# Altium footprint library 2002_B_CapteurMeteoWifi.PcbLib: 17 footprints (part 1 of 2)
Each footprint in its own frame and in the unit in brackets; x right, y up, seen from the top. Pads: shape width x height; smd on the part's side, far side on the other; paste and mask are expansions set on the pad; w line width, h text height; cw(c..) or ccw(c..) is an arc to the next point about the centre after c.
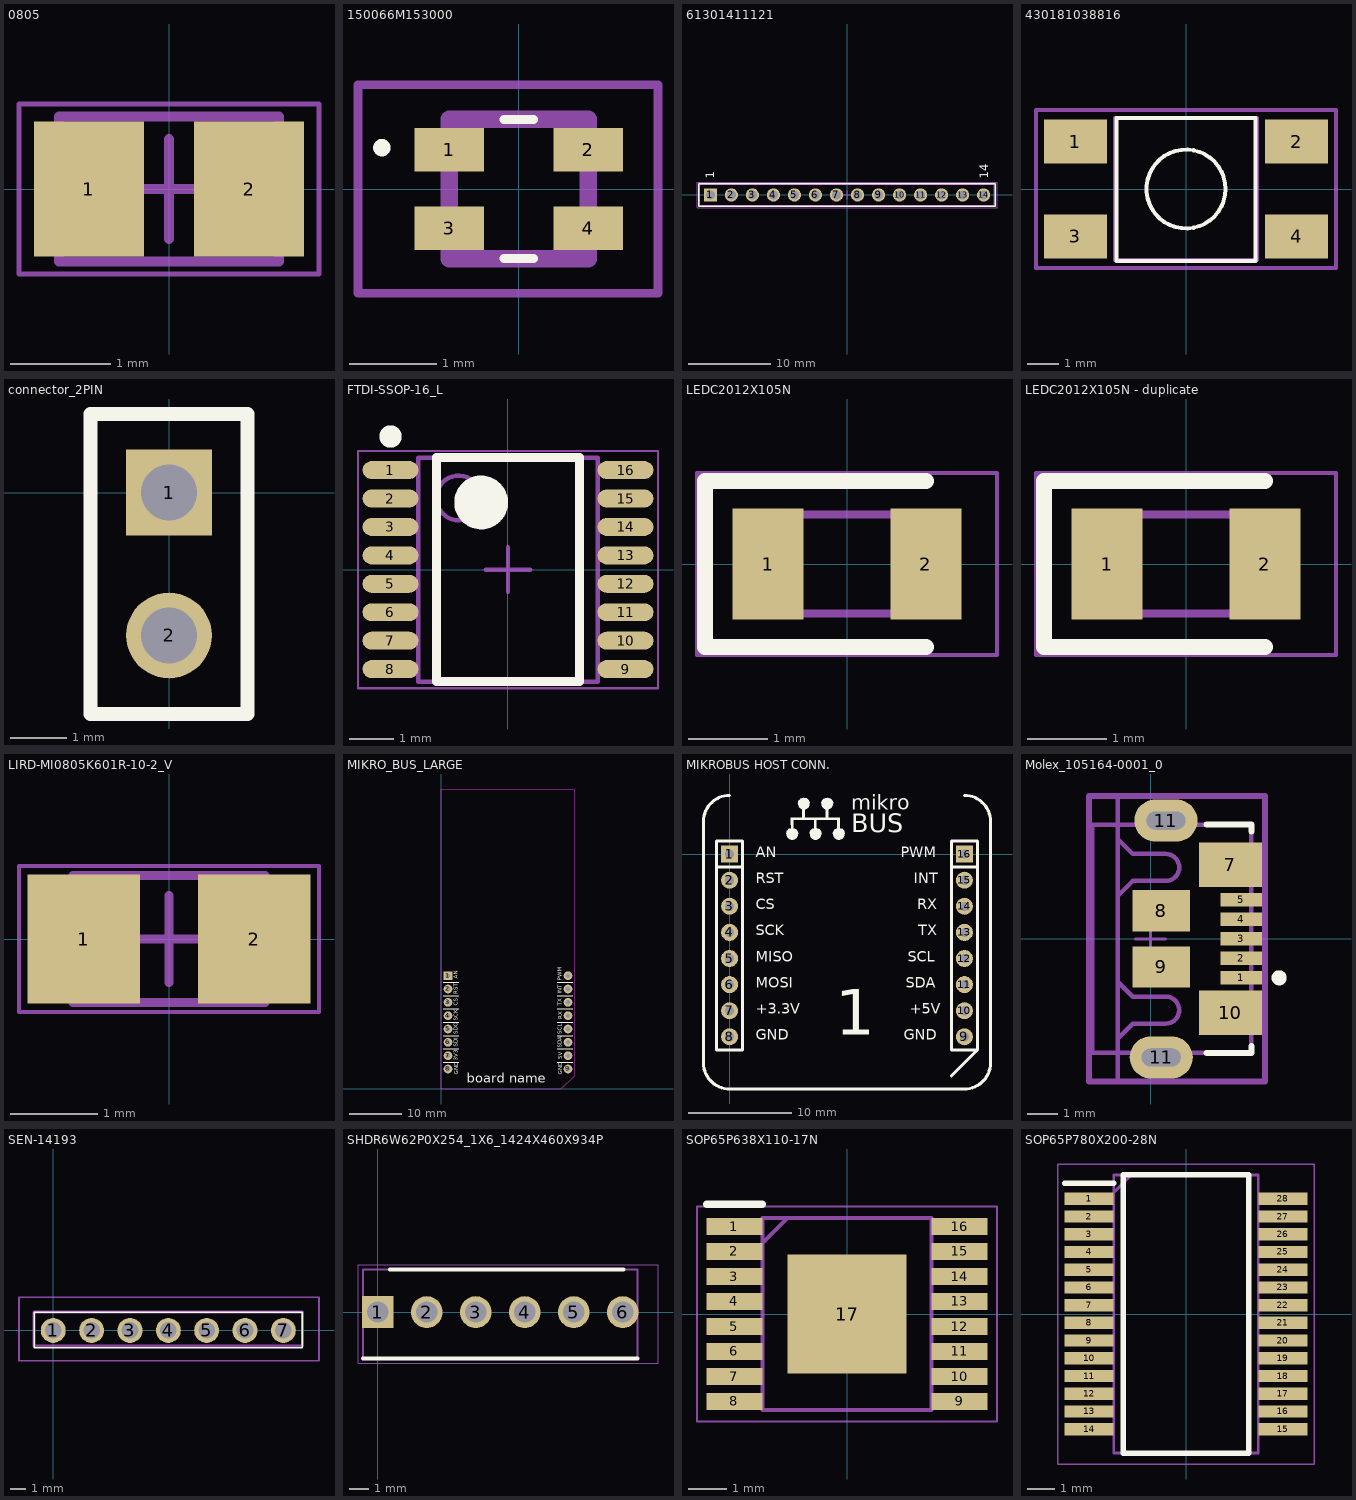
[diagram p0: the footprints below, top view; thin cyan lines are the x and y axes]

## 0805 [mm] "Chip Capacitor, 2-Leads, Body 2.00x1.25mm, IPC High Density"
height 1.4
pads (2):
  rect 1.1x1.35 smd: 1(-0.8,0) 2(0.8,0)
Mechanical 13:
  lines w0.1: -1.1,-0.725 1.1,-0.725 1.1,0.725 -1.1,0.725 -1.1,-0.725
Mechanical 15:
  lines w0.05: -1.5,-0.85 1.5,-0.85 1.5,0.85 -1.5,0.85 -1.5,-0.85
  lines w0.1: -0.5,0 0.5,0 ; 0,-0.5 0,0.5
3D body: height 1.4, standoff 0, extent 0.6,-0.725 1.1,0.725
3D body: height 1.4, standoff 0, extent -1.1,-0.725 -0.6,0.725
3D body: height 1.4, standoff 0, extent -0.6,-0.725 0.6,0.725

## 150066M153000 [mm]
pads (4):
  rect 0.8x0.5 smd: 1(-0.8,0.45) 2(0.8,0.45) 3(-0.8,-0.45) 4(0.8,-0.45)
Top Overlay:
  lines w0.1: -0.17,-0.8 0.17,-0.8 ; -0.17,0.8 0.17,0.8 ; -1.575,0.425 cw(c-1.575,0.475) -1.575,0.525 cw(c-1.575,0.475) -1.575,0.425
Mechanical 13:
  lines w0.2: -0.8,-0.8 -0.8,0.8 0.8,0.8 0.8,-0.8 -0.8,-0.8
Mechanical 15:
  lines w0.1: -1.85,-1.2 -1.85,1.2 1.6,1.2 1.6,-1.2 -1.85,-1.2

## 61301411121 [mm] "Pin Header, pitch 2.54 mm, THT, Vertical, single row, 14p"
height 8.54
pads (14):
  rect 1.6x1.6 hole 1.1: 1(-16.51,0)
  round 1.6 hole 1.1: 2(-13.97,0) 3(-11.43,0) 4(-8.89,0) 5(-6.35,0) 6(-3.81,0) 7(-1.27,0) 8(1.27,0) 9(3.81,0) 10(6.35,0) 11(8.89,0) 12(11.43,0) 13(13.97,0) 14(16.51,0)
Top Overlay:
  lines w0.2: -17.93,-1.345 -17.93,1.345 17.93,1.345 17.93,-1.345 -17.93,-1.345
  text "1" at -16.025,1.975 h1.02
  text "14" at 17.05,1.975 h1.02
Mechanical 13:
  lines w0.1: -17.78,-1.27 17.78,-1.27 17.78,1.27 -17.78,1.27 -17.78,-1.27
Mechanical 15:
  lines w0.05: -0.5,0 0.5,0 ; 0,-0.5 0,0.5 ; -18.13,-1.545 18.13,-1.545 18.13,1.545 -18.13,1.545 -18.13,-1.545
3D body "61301411121.stp": height 8.57, standoff -2.97, extent -17.78,-1.27 17.78,1.27

## 430181038816 [mm] "4.5*4.5mm vertical type, SMD, height 3.8mm, black actuator, 160gf, T&R"
height 3.8
pads (4):
  rect 2x1.4 smd: 1(-3.5,1.5) 2(3.5,1.5) 3(-3.5,-1.5) 4(3.5,-1.5)
Top Overlay:
  circle w0.127: c0,0 r1.25
  lines w0.127: -2.2,-2.275 2.2,-2.275 2.2,2.25 -2.2,2.25 -2.2,-2.275
Mechanical 13:
  lines w0.127: -2.25,-2.25 2.25,-2.25 2.25,2.25 -2.25,2.25 -2.25,-2.25
Mechanical 15:
  lines w0.127: -4.75,-2.5 -4.75,2.5 4.75,2.5 4.75,-2.5 -4.75,-2.5
3D body "430181038816.stp": height 3.78, standoff -0.02, extent -3.75,-2.25 3.75,2.25

## connector_2PIN [mil]
pads (2):
  rect 60x60 hole 39.37: 1(0,0)
  round 60 hole 39.37: 2(0,-100)
Top Overlay:
  lines w10: -10,55 55,55 55,35 55,-155 -55,-155 -55,40 -55,55 -5,55 45,55

## FTDI-SSOP-16_L [mm] "SOP, 16-Leads, Body 5x4mm, Pitch 0.635mm, IPC High Density"
height 1.76
pads (16):
  oval 1.25x0.4 smd: 1(-2.625,2.222) 2(-2.625,1.587) 3(-2.625,0.952) 4(-2.625,0.317) 5(-2.625,-0.318) 6(-2.625,-0.953) 7(-2.625,-1.588) 8(-2.625,-2.223) 9(2.625,-2.223) 10(2.625,-1.588) 11(2.625,-0.953) 12(2.625,-0.318) 13(2.625,0.317) 14(2.625,0.952) 15(2.625,1.587) 16(2.625,2.222)
Top Overlay:
  circle w0.6: c-0.6,1.5 r0.3
  circle w0.25: c-2.625,2.973 r0.125
  lines w0.2: -1.6,-2.5 1.6,-2.5 1.6,2.5 -1.6,2.5 -1.6,-2.5
Mechanical 13:
  circle w0.1: c-1.1,1.6 r0.5
  lines w0.1: -2,-2.5 2,-2.5 2,2.5 -2,2.5 -2,-2.5
Mechanical 15:
  lines w0.05: -3.35,-2.65 3.35,-2.65 3.35,2.65 -3.35,2.65 -3.35,-2.65
  lines w0.1: -0.5,0 0.5,0 ; 0,-0.5 0,0.5
3D body: height 1.76, standoff 0.1, extent -2,-2.5 2,2.5

## LEDC2012X105N [mm]
pads (2):
  rect 0.9x1.4 smd: 1(-1,0) 2(1,0)
Top Overlay:
  lines w0.2: 1,-1.05 -1.8,-1.05 -1.8,1.05 1,1.05
Mechanical 13:
  lines w0.1: -1,0.208 -0.583,0.625 ; -1,-0.625 1,-0.625 1,0.625 -1,0.625 -1,-0.625
Mechanical 15:
  lines w0.05: -1.9,-1.15 1.9,-1.15 1.9,1.15 -1.9,1.15 -1.9,-1.15

## LEDC2012X105N - duplicate [mm]
pads (2):
  rect 0.9x1.4 smd: 1(-1,0) 2(1,0)
Top Overlay:
  lines w0.2: 1,-1.05 -1.8,-1.05 -1.8,1.05 1,1.05
Mechanical 13:
  lines w0.1: -1,0.208 -0.583,0.625 ; -1,-0.625 -1,0.625 1,0.625 1,-0.625 -1,-0.625
Mechanical 15:
  lines w0.05: -1.9,-1.15 -1.9,1.15 1.9,1.15 1.9,-1.15 -1.9,-1.15

## LIRD-MI0805K601R-10-2_V [mm] "Chip Bead, 2-Leads, Body 2.2 x1.45 mm"
height 1.1
pads (2):
  rect 1.285x1.47 smd: 1(-0.973,0) 2(0.973,0)
Mechanical 13:
  lines w0.1: -1.1,-0.725 1.1,-0.725 1.1,0.725 -1.1,0.725 -1.1,-0.725
Mechanical 15:
  lines w0.05: -1.715,-0.835 -1.715,0.835 1.715,0.835 1.715,-0.835 -1.715,-0.835
  lines w0.1: -0.5,0 0.5,0 ; 0,-0.5 0,0.5
3D body "INDC2012X11L23.step": height 1.1, standoff 0, extent -1.1,-0.725 1.1,0.725

## MIKRO_BUS_LARGE [mil]
height 47.24
pads (16):
  rect 65x65 hole 35: 1(50,850)
  round 65 hole 35: 2(50,750) 3(50,650) 4(50,550) 5(50,450) 6(50,350) 7(50,250) 8(50,150) 9(950,150) 10(950,250) 11(950,350) 12(950,450) 13(950,550) 14(950,650) 15(950,750) 16(950,850)
Top Overlay:
  lines w8: 15,200 130,200 ; 15,300 130,300 ; 15,400 130,400 ; 15,500 130,500 ; 15,600 130,600 ; 15,700 130,700 ; 15,800 130,800 ; 870,200 985,200 ; 870,300 985,300 ; 870,400 985,400 ; 870,500 985,500 ; 870,600 985,600 ; 870,700 985,700 ; 870,800 985,800
  text "board name" at 190,20 h120
  text "PWM" at 905,810 h30
  text "CS" at 125,625 h30
  text "TX" at 905,625 h30
  text "RX" at 905,525 h30
  text "SCL" at 905,410 h30
  text "SDA" at 905,310 h30
  text "GND" at 905,107 h30
  text "SDO" at 125,410 h30
  text "RST" at 125,710 h30
  text "INT" at 905,715 h30
  text "SCK" at 125,510 h30
  text "AN" at 125,825 h30
  text "SDI" at 125,315 h30
  text "5V" at 905,225 h30
  text "3V3" at 125,210 h30
  text "GND" at 125,107 h30
Bottom Overlay:
  lines w8: 3,100 100,100 100,900 3,900 ; 997,100 900,100 900,900 997,900
  text "SCK" at 230,530 h35
  text "AN" at 200,830 h35
  text "TX" at 860,630 h35
  text "RX" at 860,530 h35
  text "5V" at 860,230 h35
  text "GND" at 860,130 h35
  text "PWM" at 860,830 h35
  text "RST" at 230,730 h35
  text "SDA" at 860,330 h35
  text "SDO" at 230,430 h35
  text "3V3" at 230,230 h35
  text "GND" at 233,130 h35
  text "CS" at 195,630 h35
  text "SDI" at 220,330 h35
  text "INT" at 860,730 h35
  text "SCL" at 860,430 h35
Keep-Out Layer:
  lines w6: 0,0 900,0 1000,100 1000,2250 0,2250 0,0
3D body "User Library-PinHeaderX3.STEP": height 81.88, standoff -398.04, extent 892.52,100 1007.48,400
3D body "User Library-PinHeaderX3.STEP": height 81.88, standoff -398.04, extent -7.96,100 107,400
3D body "User Library-PinHeaderX5-1.STEP": height 81.88, standoff -398.04, extent 892.52,400 1007.48,900
3D body "User Library-PinHeaderX5-1.STEP": height 81.88, standoff -398.04, extent -7.96,400 107,900

## MIKROBUS HOST CONN. [mil]
height 47.24
pads (16):
  rect 65x65 hole 35: 1(0,0) 16(900,0)
  round 65 hole 35: 2(0,-100) 3(0,-200) 4(0,-300) 5(0,-400) 6(0,-500) 7(0,-600) 8(0,-700) 9(900,-700) 10(900,-600) 11(900,-500) 12(900,-400) 13(900,-300) 14(900,-200) 15(900,-100)
Top Overlay:
  drawing of 650 lines, arcs and shapes, not listed
  text "SDA" at 674.28,-525 h70
  text "RST" at 100,-125 h70
  text "CS" at 100,-225 h70
  text "MISO" at 100,-425 h70
  text "SCK" at 100,-325 h70
  text "MOSI" at 100,-525 h70
  text "+3.3V" at 100,-625 h70
  text "GND" at 100,-725 h70
  text "SCL" at 683.48,-425 h70
  text "INT" at 706.49,-125 h70
  text "RX" at 718.67,-225 h70
  text "TX" at 722.17,-325 h70
  text "GND" at 668,-725 h70
  text "+5V" at 691,-625 h70
  text "AN" at 100,-25 h70
  text "PWM" at 656.79,-25 h70
  text "mikro" at 467,150.54 h99
  text "BUS" at 467,58.51 h121.5
  text "1" at 405,-750 h300
Bottom Overlay:
  drawing of 645 lines, arcs and shapes, not listed
  text "mikro" at 430,170 h110
  text "BUS" at 430,60 h135
  text "PWM" at 800,-25 h70
  text "+5V" at 800,-625 h70
  text "GND" at 800,-725 h70
  text "TX" at 800,-325 h70
  text "RX" at 800,-225 h70
  text "INT" at 800,-125 h70
  text "SCL" at 800,-425 h70
  text "SDA" at 800,-525 h70
  text "AN" at 180.36,-25 h70
  text "GND" at 230,-725 h70
  text "+3.3V" at 260,-625 h70
  text "MOSI" at 248.27,-525 h70
  text "SCK" at 224.23,-325 h70
  text "MISO" at 251.12,-425 h70
  text "CS" at 179,-225 h70
  text "RST" at 217.49,-125 h70
  text "1" at 485,-750 h300
3D body "F1X8.stp": height 334.65, standoff -124.02, extent 850.79,-754.92 949.21,54.92
3D body "F1X8.stp": height 334.65, standoff -124.02, extent -49.21,-754.92 49.21,54.92

## Molex_105164-0001_0 [mm]
pads (11):
  rect 1.38x0.45 smd paste+0 mask+0: 1(3.01,-1.3) 2(3.01,-0.65) 3(3.01,0) 4(3.01,0.65) 5(3.01,1.3)
  rect 2.1x1.475 smd paste+0 mask+0: 7(2.65,2.462) 10(2.65,-2.462)
  rect 1.9x1.375 smd paste+0 mask+0: 8(0.35,0.937) 9(0.35,-0.937)
  oval 2.1x1.4 hole 0.6 slot 1.3 at 0 deg paste-1000 mask+0: 11(0.35,-3.95) 11(0.508,3.937)
Top Overlay:
  circle w0.25: c4.275,-1.3 r0.125
  lines w0.2: 1.85,-3.8 3.35,-3.8 3.35,-3.575 ; 1.85,3.8 3.35,3.8 3.35,3.575
Mechanical 2:
  lines w0.15: -1.1,-3.325 -0.6,-2.825 0.5,-2.825 ccw(c0.499,-2.375) 0.5,-1.925 -0.6,-1.925 -1.1,-1.425 ; -1.1,1.425 -0.6,1.925 0.5,1.925 ccw(c0.499,2.375) 0.5,2.825 -0.6,2.825 -1.1,3.325
Mechanical 10:
  lines w0.2: -2.05,-4.75 3.8,-4.75 3.8,4.75 -2.05,4.75 -2.05,-4.75
  text ".Designator" at 0.875,0 h1
Mechanical 12:
  lines w0.15: -1.1,-4.75 -1.1,4.75 ; -1.95,-3.8 3.35,-3.8 3.35,3.8 -1.95,3.8 -1.95,-3.8
Mechanical 15:
  lines w0.1: -0.5,0 0.5,0 ; 0,-0.5 0,0.5
  lines w0.2: -2.05,-4.75 3.8,-4.75 3.8,4.75 -2.05,4.75 -2.05,-4.75
3D body "Conn_Molex_105164-0001_eec.STEP": height 2.48, standoff -0.77, extent -1.788,-4.09 3.362,4.109

## SEN-14193 [mm]
pads (7):
  round 1.65 hole 1.1: 1(0,0) 2(2.54,0) 3(5.08,0) 4(7.62,0) 5(10.16,0) 6(12.7,0) 7(15.24,0)
Top Overlay:
  lines w0.1: -1.27,-1.15 -1.27,1.205 16.5,1.205 16.5,-1.15 -1.27,-1.15
Mechanical 1:
  pour cut-out: 10.9,4.2
Mechanical 13:
  lines w0.2: -1.27,-1.025 -1.27,1.205 16.5,1.205 16.5,-1.025 -1.27,-1.025
Mechanical 15:
  lines w0.1: -2.27,-2.025 -2.27,2.205 17.6,2.205 17.6,-2.025 -2.27,-2.025
3D body: height 7.55, standoff 6, extent -5.1,-1.1 20.3,24.2

## SHDR6W62P0X254_1X6_1424X460X934P [mm]
pads (6):
  rect 1.65x1.65 hole 1.1: 1(0,0)
  round 1.65 hole 1.1: 2(2.54,0) 3(5.08,0) 4(7.62,0) 5(10.16,0) 6(12.7,0)
Top Overlay:
  lines w0.2: -0.77,-2.4 13.47,-2.4 ; 0.625,2.2 12.75,2.2
Mechanical 13:
  lines w0.1: -0.77,-2.4 13.47,-2.4 13.47,2.2 -0.77,2.2 -0.77,-2.4
Mechanical 15:
  lines w0.05: -1.02,-2.65 14.53,-2.65 14.53,2.45 -1.02,2.45 -1.02,-2.65
3D body "76384-306LF.stp": height 9.34, standoff -3.4, extent -0.77,-2.3 13.47,2.3

## SOP65P638X110-17N [mm]
pads (17):
  rect 1.45x0.45 smd: 1(-2.925,2.275) 2(-2.925,1.625) 3(-2.925,0.975) 4(-2.925,0.325) 5(-2.925,-0.325) 6(-2.925,-0.975) 7(-2.925,-1.625) 8(-2.925,-2.275) 9(2.925,-2.275) 10(2.925,-1.625) 11(2.925,-0.975) 12(2.925,-0.325) 13(2.925,0.325) 14(2.925,0.975) 15(2.925,1.625) 16(2.925,2.275)
  rect 3.1x3.1 smd: 17(0,0)
Top Overlay:
  lines w0.2: -3.65,2.85 -2.2,2.85
Mechanical 13:
  lines w0.1: -2.2,1.85 -1.55,2.5 ; -2.2,-2.5 2.2,-2.5 2.2,2.5 -2.2,2.5 -2.2,-2.5
Mechanical 15:
  lines w0.05: -3.9,-2.8 3.9,-2.8 3.9,2.8 -3.9,2.8 -3.9,-2.8
3D body "MAX1793EUE33+.stp": height 1.1, standoff 0, extent -3.187,-2.5 3.187,2.5

## SOP65P780X200-28N [mm]
pads (28):
  rect 1.8x0.45 smd: 1(-3.55,4.225) 2(-3.55,3.575) 3(-3.55,2.925) 4(-3.55,2.275) 5(-3.55,1.625) 6(-3.55,0.975) 7(-3.55,0.325) 8(-3.55,-0.325) 9(-3.55,-0.975) 10(-3.55,-1.625) 11(-3.55,-2.275) 12(-3.55,-2.925) 13(-3.55,-3.575) 14(-3.55,-4.225) 15(3.55,-4.225) 16(3.55,-3.575) 17(3.55,-2.925) 18(3.55,-2.275) 19(3.55,-1.625) 20(3.55,-0.975) 21(3.55,-0.325) 22(3.55,0.325) 23(3.55,0.975) 24(3.55,1.625) 25(3.55,2.275) 26(3.55,2.925) 27(3.55,3.575) 28(3.55,4.225)
Top Overlay:
  lines w0.2: -4.45,4.8 -2.65,4.8 ; -2.3,-5.1 2.3,-5.1 2.3,5.1 -2.3,5.1 -2.3,-5.1
Mechanical 13:
  lines w0.1: -2.65,4.45 -2,5.1 ; -2.65,-5.1 2.65,-5.1 2.65,5.1 -2.65,5.1 -2.65,-5.1
Mechanical 15:
  lines w0.05: -4.7,-5.5 4.7,-5.5 4.7,5.5 -4.7,5.5 -4.7,-5.5
3D body "PIC32MX130F256B-I_SS.stp": height 2, standoff 0, extent -3.9,-5.1 3.9,5.1